# Altium integrated library MezzRev4.IntLib: 37 symbols
Pins are listed as number, name and electrical type; pins without a type are passive.

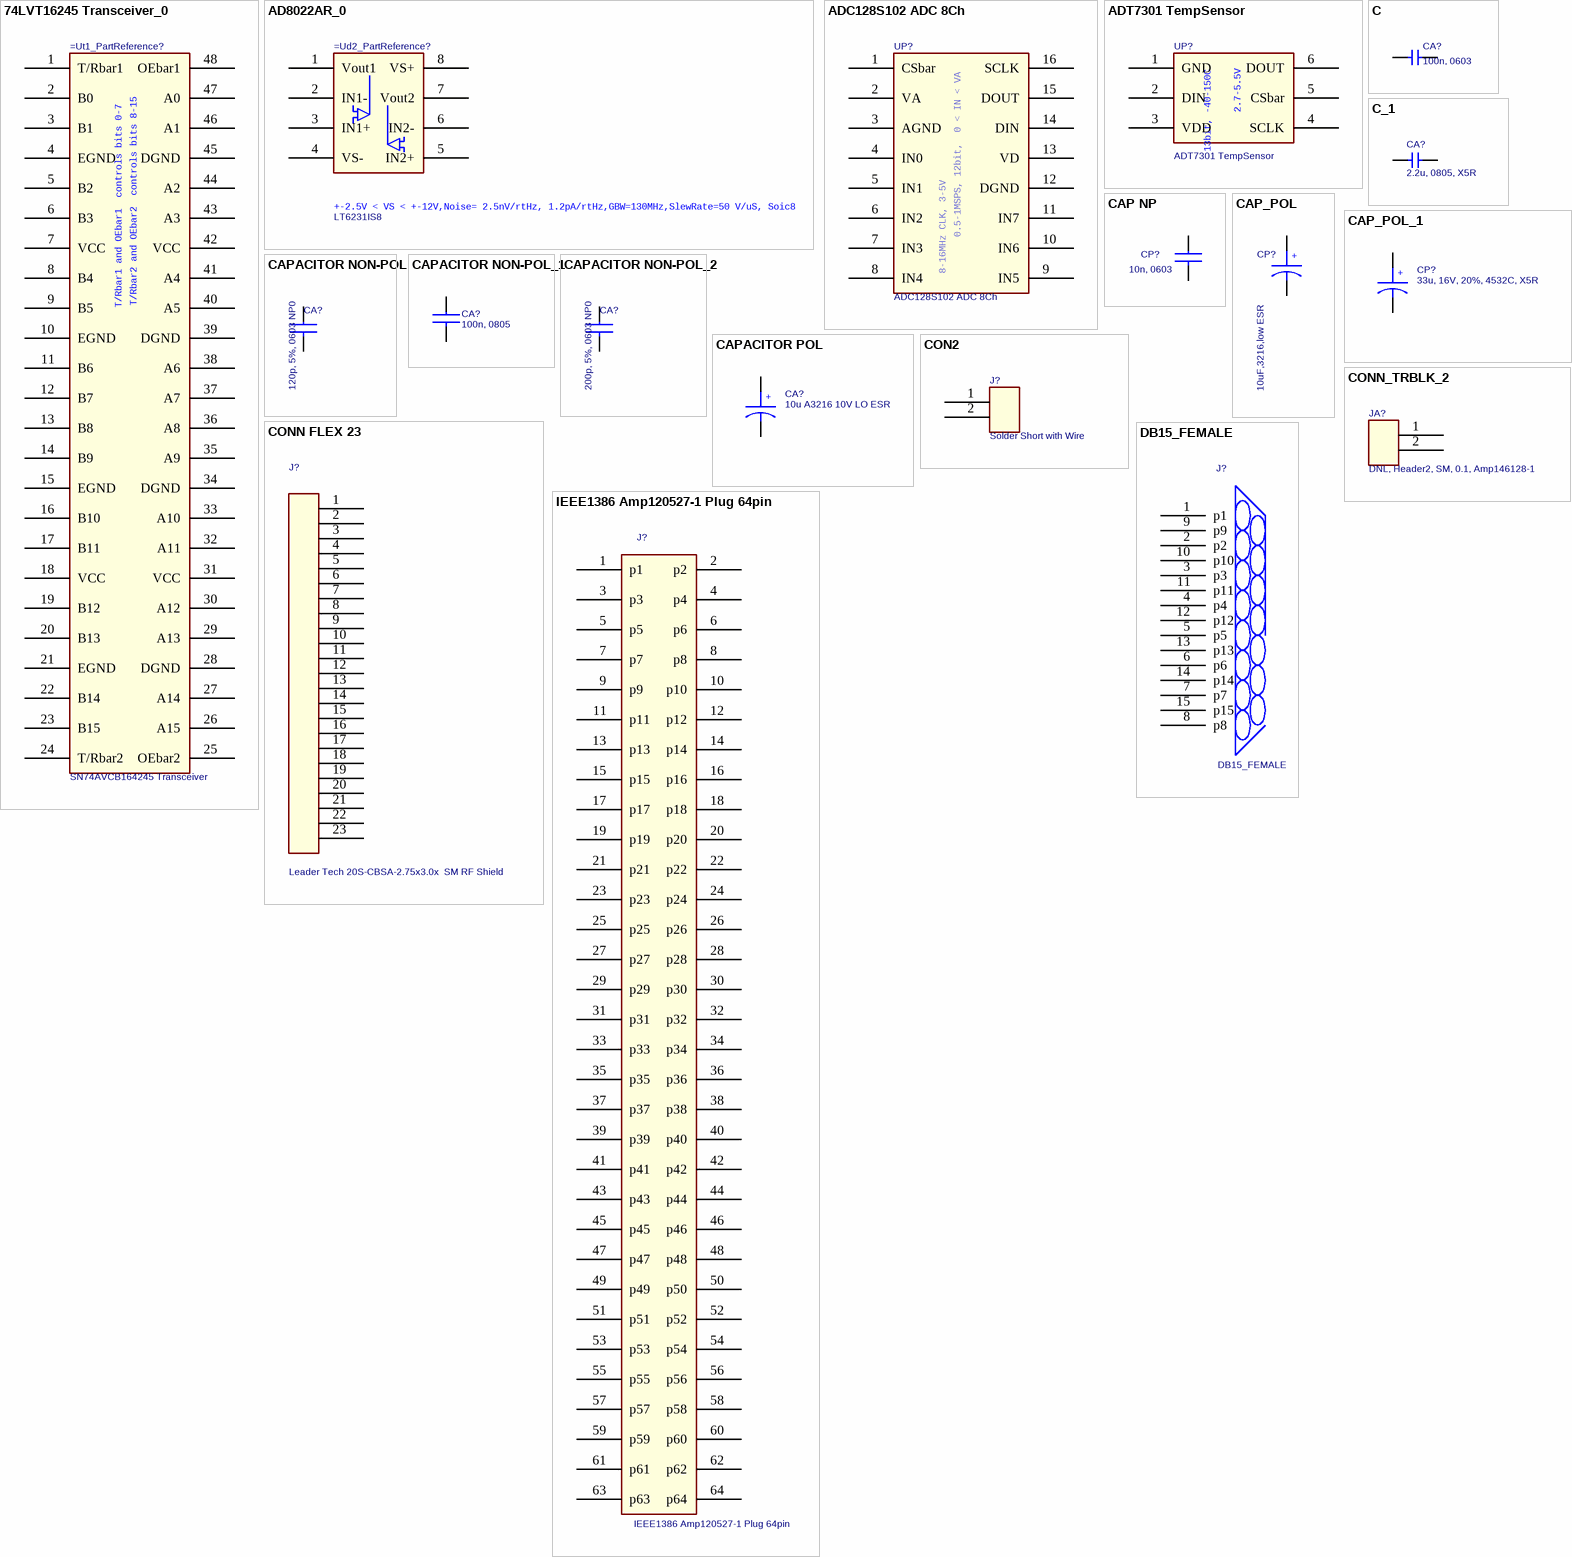
[diagram p0: symbols 74LVT16245 Transceiver_0 to IEEE1386 Amp120527-1 Plug 64pin]

## 74LVT16245 Transceiver_0
designator =Ut1_PartReference?, comment SN74AVCB164245 Transceiver
COMPFIXED: NO; COMPGROUP: 0; COMPHEIGHT: 0.000; COMPROT: 90; COMPSIDE: BOT; FPLIST: TSSOP48_.4MMPITCH,TSSOP48_.4MMPITCH_NARROW; COMPKEY: NO; COMPLOCKED: NO; DECOUPLER: NO; MEMORY: NO; COMPLOC: =Ut1_COMPLOC
footprint TSSOP48
footprint TSSOP48_.4MMPITCH_NARROW
pins: 1 T/Rbar1, 2 B0, 3 B1, 4 EGND, 5 B2, 6 B3, 7 VCC, 8 B4, 9 B5, 10 EGND, 11 B6, 12 B7, 13 B8, 14 B9, 15 EGND, 16 B10, 17 B11, 18 VCC, 19 B12, 20 B13, 21 EGND, 22 B14, 23 B15, 24 T/Rbar2, 25 OEbar2, 26 A15, 27 A14, 28 DGND, 29 A13, 30 A12, 31 VCC, 32 A11, 33 A10, 34 DGND, 35 A9, 36 A8, 37 A7, 38 A6, 39 DGND, 40 A5, 41 A4, 42 VCC, 43 A3, 44 A2, 45 DGND, 46 A1, 47 A0, 48 OEbar1
text: T/Rbar1 and OEbar1  controls bits 0-7; T/Rbar2 and OEbar2  controls bits 8-15

## AD8022AR_0
designator =Ud2_PartReference?, comment LT6231IS8
COMPFIXED: NO; COMPGROUP: 0; COMPHEIGHT: 0.000; COMPROT: 180; COMPSIDE: TOP; COMPKEY: NO; COMPLOCKED: NO; DECOUPLER: NO; MEMORY: NO; COMPLOC: =Ud2_COMPLOC
footprint soic8
footprint SO8/L200
pins: 1 Vout1, 2 IN1-, 3 IN1+, 4 VS-, 5 IN2+, 6 IN2-, 7 Vout2, 8 VS+
text: +-2.5V < VS < +-12V, / Noise= 2.5nV/rtHz, 1.2pA/rtHz, / GBW=130MHz, / SlewRate=50 V/uS, Soic8

## ADC128S102 ADC 8Ch
designator UP?
COMPFIXED: NO; COMPGROUP: 0; COMPHEIGHT: 0.000; COMPLOC: [1755.933,1241.800]; COMPSIDE: TOP; COMPKEY: NO; COMPLOCKED: NO; COMPROT: 0; DECOUPLER: NO; MEMORY: NO
footprint TSSOP16
footprint TSSOP16
pins: 1 CSbar, 2 VA, 3 AGND, 4 IN0, 5 IN1, 6 IN2, 7 IN3, 8 IN4, 9 IN5, 10 IN6, 11 IN7, 12 DGND, 13 VD, 14 DIN, 15 DOUT, 16 SCLK
text: 0.5-1MSPS, 12bit,  0 < IN < VA; 8-16MHz CLK, 3-5V

## ADT7301 TempSensor
designator UP?
COMPFIXED: NO; COMPGROUP: 0; COMPHEIGHT: 0.000; COMPLOC: [1712.633,1314.367]; COMPROT: 90; COMPSIDE: TOP; COMPKEY: NO; COMPLOCKED: NO; DECOUPLER: NO; MEMORY: NO
footprint SOT23-6
pins: 1 GND, 2 DIN, 3 VDD, 4 SCLK, 5 CSbar, 6 DOUT
text: 2.7-5.5V; 13bit, -40-150C

## C
designator CA?, comment 100n, 0603
PSpiceTemplate: C^@REFDES %1 %2 ?TOLERANCE|C^@REFDES| @VALUE ?IC/IC=@IC/ ?TOLERANCE|\n.model C^@REFDES CAP C=1 DEV=@TOLERANCE%|; COMPGROUP: 1; COMPFIXED: NO; COMPHEIGHT: 0.000; COMPLOC: [2197.633,2146.433]; COMPROT: 270; COMPSIDE: TOP; Value: 100n, 0603; COMPKEY: NO; COMPLOCKED: NO; DECOUPLER: NO; MEMORY: NO
simulation model C
footprint 0603C
pins: 1, 2

## C_1
designator CA?, comment 2.2u, 0805, X5R
PSpiceTemplate: C^@REFDES %1 %2 ?TOLERANCE|C^@REFDES| @VALUE ?IC/IC=@IC/ ?TOLERANCE|\n.model C^@REFDES CAP C=1 DEV=@TOLERANCE%|; COMPGROUP: 1; COMPFIXED: NO; COMPHEIGHT: 0.000; COMPLOC: [2267.633,1771.433]; COMPROT: 90; COMPSIDE: TOP; Value: 2.2u, 0805, X5R; COMPKEY: NO; COMPLOCKED: NO; DECOUPLER: NO; MEMORY: NO
simulation model C
footprint 0805C
pins: 1, 2

## CAP NP
designator CP?, comment 10n, 0603
footprint 0603C
pins: 1, 2

## CAP_POL
designator CP?, comment 10uF,3216,low ESR
COMPFIXED: NO; COMPGROUP: 0; COMPHEIGHT: 0.000; COMPLOC: [2205.000,1380.000]; COMPROT: 90; COMPSIDE: BOT; FPLIST: TANT4532; COMPKEY: NO; COMPLOCKED: NO; DECOUPLER: NO; MEMORY: NO
footprint TANTA
pins: 1, 2
text: +

## CAP_POL_1
designator CP?, comment 33u, 16V, 20%, 4532C, X5R
COMPFIXED: NO; COMPGROUP: 0; COMPHEIGHT: 0.000; COMPLOC: [2204.633,120.000]; COMPROT: 180; COMPSIDE: TOP; COMPKEY: NO; COMPLOCKED: NO; DECOUPLER: NO; MEMORY: NO
footprint TANT4532
pins: 1, 2
text: +

## CAPACITOR NON-POL
designator CA?, comment 120p, 5%, 0603 NP0
COMPGROUP: 1; COMPFIXED: NO; COMPHEIGHT: 0.000; COMPLOC: [2592.633,1641.433]; COMPROT: 270; COMPSIDE: TOP; COMPKEY: NO; COMPLOCKED: NO; DECOUPLER: NO; MEMORY: NO
footprint 0603C
pins: 1, 2

## CAPACITOR NON-POL_1
designator CA?, comment 100n, 0805
COMPGROUP: 1; COMPFIXED: NO; COMPHEIGHT: 0.000; COMPLOC: [3874.633,1680.000]; COMPROT: 180; COMPSIDE: TOP; COMPKEY: NO; COMPLOCKED: NO; DECOUPLER: NO; MEMORY: NO
footprint 0805C
pins: 1, 2

## CAPACITOR NON-POL_2
designator CA?, comment 200p, 5%, 0603 NP0
COMPGROUP: 1; COMPFIXED: NO; COMPHEIGHT: 0.000; COMPLOC: [2607.633,1521.433]; COMPROT: 270; COMPSIDE: TOP; FPLIST: 0805L; COMPKEY: NO; COMPLOCKED: NO; DECOUPLER: NO; MEMORY: NO
footprint 0603C_REV1
pins: 1, 2

## CAPACITOR POL
designator CA?, comment 10u A3216 10V LO ESR
COMPGROUP: 1; COMPFIXED: NO; COMPHEIGHT: 0.000; COMPLOC: [3567.633,1751.433]; COMPROT: 180; COMPSIDE: TOP; COMPKEY: NO; COMPLOCKED: NO; DECOUPLER: NO; MEMORY: NO
footprint TANTA
pins: 1, 2
text: +

## CON2
designator J?, comment Solder Short with Wire
COMPFIXED: NO; COMPGROUP: 0; COMPHEIGHT: 0.000; COMPLOC: [979.633,105.000]; COMPSIDE: TOP; FPLIST: HEADER_AMP146128; COMPKEY: NO; COMPLOCKED: NO; COMPROT: 0; DECOUPLER: NO; MEMORY: NO
footprint BLKCON.100/VH/TM1SQS/W.100/2
pins: 1, 2

## CONN FLEX 23
designator J?, comment Leader Tech 20S-CBSA-2.75x3.0x  SM RF Shield
COMPROT: 270; COMPLOC: [4237.633,3305.000]; COMPFIXED: NO; COMPGROUP: 0; COMPHEIGHT: 0.000; COMPSIDE: TOP; COMPKEY: NO; COMPLOCKED: NO; DECOUPLER: NO; MEMORY: NO
footprint SHIELD 2.75X3.00
pins: 1, 2, 3, 4, 5, 6, 7, 8, 9, 10, 11, 12, 13, 14, 15, 16, 17, 18, 19, 20, 21, 22, 23

## CONN_TRBLK_2
designator JA?, comment DNL, Header2, SM, 0.1, Amp146128-1
COMPGROUP: 1; COMPFIXED: NO; COMPHEIGHT: 0.000; COMPLOC: [2507.633,1691.433]; COMPROT: 270; COMPSIDE: TOP; COMPKEY: NO; COMPLOCKED: NO; DECOUPLER: NO; MEMORY: NO
footprint HEADER_AMP146128
pins: 1, 2

## DB15_FEMALE
designator J?
COMPFIXED: NO; COMPGROUP: 0; COMPHEIGHT: 0.000; COMPLOC: [4502.733,1338.467]; COMPROT: 270; COMPSIDE: TOP; COMPKEY: NO; COMPLOCKED: NO; DECOUPLER: NO; MEMORY: NO
footprint DSUB/RS.318/TM/15
pins: 1 p1, 2 p2, 3 p3, 4 p4, 5 p5, 6 p6, 7 p7, 8 p8, 9 p9, 10 p10, 11 p11, 12 p12, 13 p13, 14 p14, 15 p15

## IEEE1386 Amp120527-1 Plug 64pin
designator J?
COMPFIXED: NO; COMPGROUP: 0; COMPHEIGHT: 0.000; COMPLOC: [194.633,3349.433]; COMPROT: 90; COMPSIDE: TOP; COMPKEY: NO; COMPLOCKED: NO; DECOUPLER: NO; MEMORY: NO
footprint CON_AMP_1MM_64PINS
pins: 1 p1, 2 p2, 3 p3, 4 p4, 5 p5, 6 p6, 7 p7, 8 p8, 9 p9, 10 p10, 11 p11, 12 p12, 13 p13, 14 p14, 15 p15, 16 p16, 17 p17, 18 p18, 19 p19, 20 p20, 21 p21, 22 p22, 23 p23, 24 p24, 25 p25, 26 p26, 27 p27, 28 p28, 29 p29, 30 p30, 31 p31, 32 p32, 33 p33, 34 p34, 35 p35, 36 p36, 37 p37, 38 p38, 39 p39, 40 p40, 41 p41, 42 p42, 43 p43, 44 p44, 45 p45, 46 p46, 47 p47, 48 p48, 49 p49, 50 p50, 51 p51, 52 p52, 53 p53, 54 p54, 55 p55, 56 p56, 57 p57, 58 p58, 59 p59, 60 p60, 61 p61, 62 p62, 63 p63, 64 p64

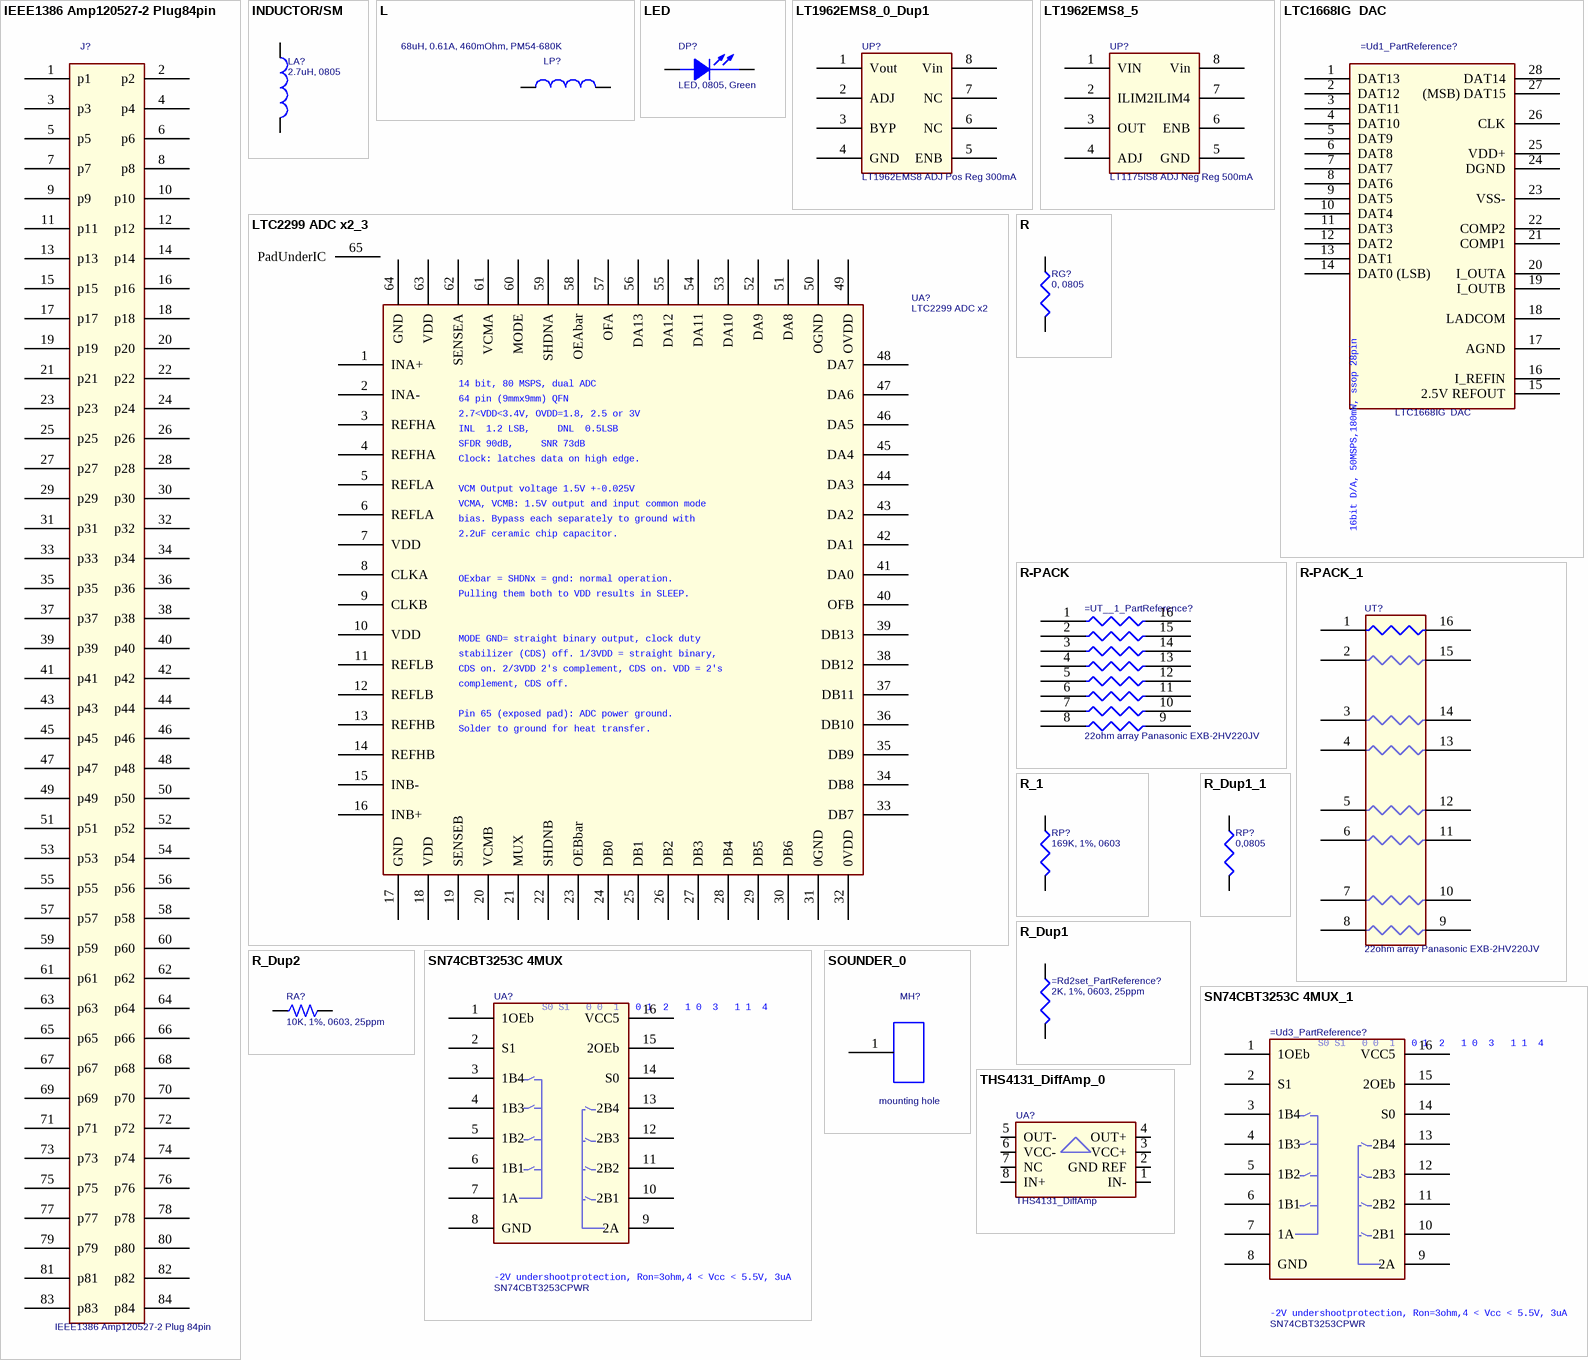
[diagram p1: symbols IEEE1386 Amp120527-2 Plug84pin to THS4131_DiffAmp_0]

## IEEE1386 Amp120527-2 Plug84pin
designator J?, comment IEEE1386 Amp120527-2 Plug 84pin
COMPFIXED: NO; COMPGROUP: 0; COMPHEIGHT: 0.000; COMPLOC: [194.633,1904.367]; COMPROT: 90; COMPSIDE: TOP; COMPKEY: NO; COMPLOCKED: NO; DECOUPLER: NO; MEMORY: NO
footprint CON_AMP_1MM_84PINS
pins: 1 p1, 2 p2, 3 p3, 4 p4, 5 p5, 6 p6, 7 p7, 8 p8, 9 p9, 10 p10, 11 p11, 12 p12, 13 p13, 14 p14, 15 p15, 16 p16, 17 p17, 18 p18, 19 p19, 20 p20, 21 p21, 22 p22, 23 p23, 24 p24, 25 p25, 26 p26, 27 p27, 28 p28, 29 p29, 30 p30, 31 p31, 32 p32, 33 p33, 34 p34, 35 p35, 36 p36, 37 p37, 38 p38, 39 p39, 40 p40, 41 p41, 42 p42, 43 p43, 44 p44, 45 p45, 46 p46, 47 p47, 48 p48, 49 p49, 50 p50, 51 p51, 52 p52, 53 p53, 54 p54, 55 p55, 56 p56, 57 p57, 58 p58, 59 p59, 60 p60, 61 p61, 62 p62, 63 p63, 64 p64, 65 p65, 66 p66, 67 p67, 68 p68, 69 p69, 70 p70, 71 p71, 72 p72, 73 p73, 74 p74, 75 p75, 76 p76, 77 p77, 78 p78, 79 p79, 80 p80, 81 p81, 82 p82, 83 p83, 84 p84

## INDUCTOR/SM
designator LA?, comment 2.7uH, 0805
COMPGROUP: 1; COMPFIXED: NO; COMPHEIGHT: 0.000; COMPLOC: [2562.633,1881.433]; COMPROT: 0; COMPSIDE: TOP; COMPKEY: NO; COMPLOCKED: NO; DECOUPLER: NO; MEMORY: NO
footprint 0805L
pins: 1, 2

## L
designator LP?, comment 68uH, 0.61A, 460mOhm, PM54-680K
PSpiceTemplate: L^@REFDES %1 %2 ?TOLERANCE|L^@REFDES| @VALUE ?IC/IC=@IC/ ?TOLERANCE|\n.model l^@REFDES IND L=1 DEV=@TOLERANCE%|; COMPFIXED: NO; COMPGROUP: 0; COMPHEIGHT: 0.000; COMPLOC: [514.633,175.000]; COMPSIDE: TOP; Value: 68uH, 0.61A, 460mOhm, PM54-680K; COMPKEY: NO; COMPLOCKED: NO; COMPROT: 0; DECOUPLER: NO; MEMORY: NO
footprint L2012C
simulation model L
footprint CHOKEPM54
pins: 1, 2

## LED
designator DP?, comment LED, 0805, Green
COMPFIXED: NO; COMPGROUP: 0; COMPHEIGHT: 0.000; COMPLOC: [2839.633,145.000]; COMPSIDE: BOT; COMPKEY: NO; COMPLOCKED: NO; COMPROT: 0; DECOUPLER: NO; MEMORY: NO
footprint 0805L
pins: 1 ANODE, 2 CATHODE

## LT1962EMS8_0_Dup1
designator UP?, comment LT1962EMS8 ADJ Pos Reg 300mA
COMPFIXED: NO; COMPGROUP: 0; COMPHEIGHT: 0.000; COMPLOC: [2332.633,1420.000]; COMPROT: 90; COMPSIDE: TOP; COMPKEY: NO; COMPLOCKED: NO; DECOUPLER: NO; MEMORY: NO
footprint MSOP8
footprint MSOP-8
pins: 1 Vout, 2 ADJ, 3 BYP, 4 GND, 5 ENB, 6 NC, 7 NC, 8 Vin

## LT1962EMS8_5
designator UP?, comment LT1175IS8 ADJ Neg Reg 500mA
COMPFIXED: NO; COMPGROUP: 0; COMPHEIGHT: 0.000; COMPLOC: [2454.633,100.000]; COMPROT: 270; COMPSIDE: BOT; COMPKEY: NO; COMPLOCKED: NO; DECOUPLER: NO; MEMORY: NO
footprint MSOP8
footprint SO8/L200
pins: 1 VIN, 2 ILIM2, 3 OUT, 4 ADJ, 5 GND, 6 ENB, 7 ILIM4, 8 Vin

## LTC1668IG  DAC
designator =Ud1_PartReference?
COMPFIXED: NO; COMPGROUP: 0; COMPHEIGHT: 0.000; COMPROT: 270; COMPSIDE: TOP; COMPKEY: NO; COMPLOCKED: NO; DECOUPLER: NO; MEMORY: NO; COMPLOC: =Ud1_COMPLOC
footprint ssop28
footprint SOG.65M/28/WG8.20/L10.16
pins: 1 DAT13, 2 DAT12, 3 DAT11, 4 DAT10, 5 DAT9, 6 DAT8, 7 DAT7, 8 DAT6, 9 DAT5, 10 DAT4, 11 DAT3, 12 DAT2, 13 DAT1, 14 DAT0 (LSB), 15 2.5V REFOUT, 16 I_REFIN, 17 AGND, 18 LADCOM, 19 I_OUTB, 20 I_OUTA, 21 COMP1, 22 COMP2, 23 VSS-, 24 DGND, 25 VDD+, 26 CLK, 27 (MSB) DAT15, 28 DAT14
text: 16bit D/A, 50MSPS, / 180mW, ssop 28pin

## LTC2299 ADC x2_3
designator UA?, comment LTC2299 ADC x2
COMPGROUP: 1; COMPFIXED: NO; COMPHEIGHT: 0.000; COMPLOC: [2148.200,1762.000]; COMPROT: 90; COMPSIDE: TOP; COMPKEY: NO; COMPLOCKED: NO; DECOUPLER: NO; MEMORY: NO
footprint QFN64
footprint QUAD_9X9MM
footprint QFN64(9X9)
pins: 1 INA+, 2 INA-, 3 REFHA, 4 REFHA, 5 REFLA, 6 REFLA, 7 VDD, 8 CLKA, 9 CLKB, 10 VDD, 11 REFLB, 12 REFLB, 13 REFHB, 14 REFHB, 15 INB-, 16 INB+, 17 GND, 18 VDD, 19 SENSEB, 20 VCMB, 21 MUX, 22 SHDNB, 23 OEBbar, 24 DB0, 25 DB1, 26 DB2, 27 DB3, 28 DB4, 29 DB5, 30 DB6, 31 0GND, 32 0VDD, 33 DB7, 34 DB8, 35 DB9, 36 DB10, 37 DB11, 38 DB12, 39 DB13, 40 OFB, 41 DA0, 42 DA1, 43 DA2, 44 DA3, 45 DA4, 46 DA5, 47 DA6, 48 DA7, 49 OVDD, 50 OGND, 51 DA8, 52 DA9, 53 DA10, 54 DA11, 55 DA12, 56 DA13, 57 OFA, 58 OEAbar, 59 SHDNA, 60 MODE, 61 VCMA, 62 SENSEA, 63 VDD, 64 GND, 65 PadUnderIC
text: 14 bit, 80 MSPS, dual ADC; 64 pin (9mmx9mm) QFN; 2.7<VDD<3.4V, OVDD=1.8, 2.5 or 3V; INL  1.2 LSB,     DNL  0.5LSB; SFDR 90dB,     SNR 73dB; Clock: latches data on high edge.; VCM Output voltage 1.5V +-0.025V; VCMA, VCMB: 1.5V output and input common mode; bias. Bypass each separately to ground with; 2.2uF ceramic chip capacitor.; OExbar = SHDNx = gnd: normal operation.; Pulling them both to VDD results in SLEEP.; MODE GND= straight binary output, clock duty; stabilizer (CDS) off. 1/3VDD = straight binary,; CDS on. 2/3VDD 2's complement, CDS on. VDD = 2's; complement, CDS off.; Pin 65 (exposed pad): ADC power ground.; Solder to ground for heat transfer.

## R
designator RG?, comment 0, 0805
pins: 1, 2

## R-PACK
designator =UT__1_PartReference?, comment 22ohm array Panasonic EXB-2HV220JV
COMPFIXED: NO; COMPGROUP: 0; COMPHEIGHT: 0.000; COMPROT: 90; COMPSIDE: BOT; COMPKEY: NO; COMPLOCKED: NO; DECOUPLER: NO; MEMORY: NO; COMPLOC: =UT__1_COMPLOC
footprint RN8.150X63
pins: 1 R1, 2 R2, 3 R3, 4 R4, 5 R5, 6 R6, 7 R7, 8 R8, 9 R8, 10 R7, 11 R6, 12 R5, 13 R4, 14 R3, 15 R2, 16 R1

## R-PACK_1
designator UT?, comment 22ohm array Panasonic EXB-2HV220JV
COMPFIXED: NO; COMPGROUP: 0; COMPHEIGHT: 0.000; COMPLOC: [783.633,464.367]; COMPROT: 90; COMPSIDE: BOT; COMPKEY: NO; COMPLOCKED: NO; DECOUPLER: NO; MEMORY: NO
footprint RN8.150X63
pins: 1 R1, 2 R2, 3 R3, 4 R4, 5 R5, 6 R6, 7 R7, 8 R8, 9 R8, 10 R7, 11 R6, 12 R5, 13 R4, 14 R3, 15 R2, 16 R1

## R_1
designator RP?, comment 169K, 1%, 0603
COMPFIXED: NO; COMPGROUP: 0; COMPHEIGHT: 0.000; COMPLOC: [1554.633,1540.000]; COMPROT: 90; COMPSIDE: BOT; COMPKEY: NO; COMPLOCKED: NO; DECOUPLER: NO; MEMORY: NO
footprint 0603R
pins: 1, 2

## R_Dup1
designator =Rd2set_PartReference?, comment 2K, 1%, 0603, 25ppm
COMPFIXED: NO; COMPGROUP: 0; COMPHEIGHT: 0.000; COMPSIDE: TOP; COMPKEY: NO; COMPLOCKED: NO; COMPROT: 0; DECOUPLER: NO; MEMORY: NO; COMPLOC: =Rd2set_COMPLOC
footprint 0603R
pins: 1, 2

## R_Dup1_1
designator RP?, comment 0,0805
COMPFIXED: NO; COMPGROUP: 0; COMPHEIGHT: 0.000; COMPLOC: [1710.633,2445.000]; COMPROT: 180; COMPSIDE: BOT; COMPKEY: NO; COMPLOCKED: NO; DECOUPLER: NO; MEMORY: NO
footprint 0805R
pins: 1, 2

## R_Dup2
designator RA?, comment 10K, 1%, 0603, 25ppm
PSpiceTemplate: R^@REFDES %1 %2 ?TOLERANCE|R^@REFDES| @VALUE  ?TOLERANCE|\n.model R^@REFDES RES R=1 DEV=@TOLERANCE%|; COMPGROUP: 1; COMPFIXED: NO; COMPHEIGHT: 0.000; COMPLOC: [3057.633,2026.433]; COMPROT: 0; COMPSIDE: TOP; Value: 10K, 1%, 0603, 25ppm; COMPKEY: NO; COMPLOCKED: NO; DECOUPLER: NO; MEMORY: NO
simulation model R
footprint 0603R
pins: 1, 2

## SN74CBT3253C 4MUX
designator UA?, comment SN74CBT3253CPWR
COMPGROUP: 1; COMPFIXED: NO; COMPHEIGHT: 0.000; COMPLOC: [3182.633,1441.433]; COMPROT: 0; COMPSIDE: TOP; COMPKEY: NO; COMPLOCKED: NO; DECOUPLER: NO; MEMORY: NO
footprint TSSOP16
footprint TSSOP16
pins: 1 1OEb, 2 S1, 3 1B4, 4 1B3, 5 1B2, 6 1B1, 7 1A, 8 GND, 9 2A, 10 2B1, 11 2B2, 12 2B3, 13 2B4, 14 S0, 15 2OEb, 16 VCC5
text: S0 S1 / 0 0  1 / 0 1  2 / 1 0  3 / 1 1  4; -2V undershoot / protection, Ron=3ohm, / 4 < Vcc < 5.5V, 3uA

## SN74CBT3253C 4MUX_1
designator =Ud3_PartReference?, comment SN74CBT3253CPWR
COMPFIXED: NO; COMPGROUP: 0; COMPHEIGHT: 0.000; COMPSIDE: TOP; COMPKEY: NO; COMPLOCKED: NO; COMPROT: 0; DECOUPLER: NO; MEMORY: NO; COMPLOC: =Ud3_COMPLOC
footprint TSSOP16
footprint SOG.65M/16/PW
pins: 1 1OEb, 2 S1, 3 1B4, 4 1B3, 5 1B2, 6 1B1, 7 1A, 8 GND, 9 2A, 10 2B1, 11 2B2, 12 2B3, 13 2B4, 14 S0, 15 2OEb, 16 VCC5
text: S0 S1 / 0 0  1 / 0 1  2 / 1 0  3 / 1 1  4; -2V undershoot / protection, Ron=3ohm, / 4 < Vcc < 5.5V, 3uA

## SOUNDER_0
designator MH?, comment mounting hole
COMPFIXED: NO; COMPGROUP: 0; COMPHEIGHT: 0.000; COMPLOC: [4254.633,3525.000]; COMPSIDE: TOP; COMPKEY: NO; COMPLOCKED: NO; COMPROT: 0; DECOUPLER: NO; MEMORY: NO
footprint MTHOLE.125
pins: 1 A

## THS4131_DiffAmp_0
designator UA?, comment THS4131_DiffAmp
COMPGROUP: 1; COMPFIXED: NO; COMPHEIGHT: 0.000; COMPLOC: [3667.633,1661.433]; COMPROT: 180; COMPSIDE: TOP; COMPKEY: NO; COMPLOCKED: NO; DECOUPLER: NO; MEMORY: NO
footprint SOIC8
footprint SO8/L200
pins: 1 IN-, 2 GND REF, 3 VCC+, 4 OUT+, 5 OUT-, 6 VCC-, 7 NC, 8 IN+